# Altium integrated library PCB_production.IntLib: 1 symbol
Pins are listed as number, name and electrical type; pins without a type are passive.

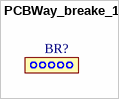
[diagram p0: symbol PCBWay_breake_1]

## PCBWay_breake_1
designator BR?, comment BR  (value not drawn)  (no BOM)
breake routing for PCB Way
footprint PCBWay_breake_1_1
footprint PCBWay_breake_1_2 (hole 0.3mm distance 0,55mm bridge 0,25mm)